# EAGLE library part STM32F401CEU6 (library IC_MCU)
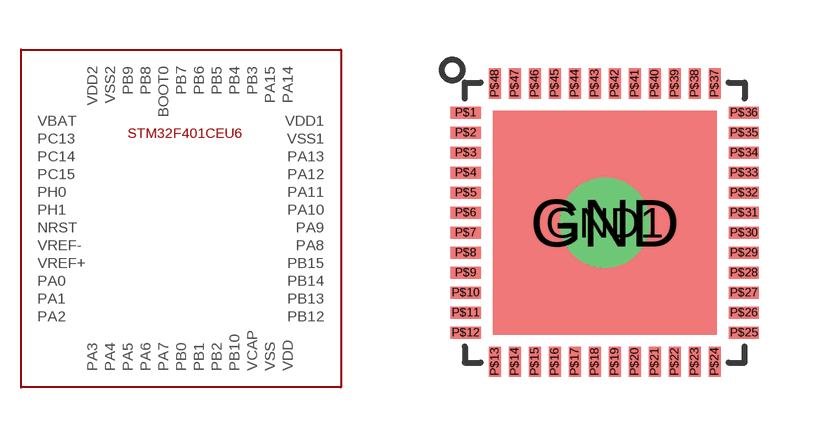
[diagram p4: symbol with the pads of UFQFPN48; footprint UFQFPN48]

Designator prefix -

## STM32F401CEU6  [UFQFPN48]
GND  VSS
GND1  VSS
P$1  VBAT
P$2  PC13
P$3  PC14
P$4  PC15
P$5  PH0
P$6  PH1
P$7  NRST
P$8  VREF-
P$9  VREF+
P$10  PA0
P$11  PA1
P$12  PA2
P$13  PA3
P$14  PA4
P$15  PA5
P$16  PA6
P$17  PA7
P$18  PB0
P$19  PB1
P$20  PB2
P$21  PB10
P$22  VCAP
P$23  VSS
P$24  VDD
P$25  PB12
P$26  PB13
P$27  PB14
P$28  PB15
P$29  PA8
P$30  PA9
P$31  PA10
P$32  PA11
P$33  PA12
P$34  PA13
P$35  VSS1
P$36  VDD1
P$37  PA14
P$38  PA15
P$39  PB3
P$40  PB4
P$41  PB5
P$42  PB6
P$43  PB7
P$44  BOOT0
P$45  PB8
P$46  PB9
P$47  VSS2
P$48  VDD2

## Footprint UFQFPN48 (pad centres in mm)
smd 5.6 x 5.6: GND 0,0
drill 1.5: GND1 0,0
smd 0.76 x 0.3: P$1 -3.48,2.75; P$2 -3.48,2.25; P$3 -3.48,1.75; P$4 -3.48,1.25; P$5 -3.48,0.75; P$6 -3.48,0.25; P$7 -3.48,-0.25; P$8 -3.48,-0.75; P$9 -3.48,-1.25; P$10 -3.48,-1.75; P$11 -3.48,-2.25; P$12 -3.48,-2.75; P$25 3.48,-2.75; P$26 3.48,-2.25; P$27 3.48,-1.75; P$28 3.48,-1.25; P$29 3.48,-0.75; P$30 3.48,-0.25; P$31 3.48,0.25; P$32 3.48,0.75; P$33 3.48,1.25; P$34 3.48,1.75; P$35 3.48,2.25; P$36 3.48,2.75
smd 0.3 x 0.76: P$13 -2.75,-3.48; P$14 -2.25,-3.48; P$15 -1.75,-3.48; P$16 -1.25,-3.48; P$17 -0.75,-3.48; P$18 -0.25,-3.48; P$19 0.25,-3.48; P$20 0.75,-3.48; P$21 1.25,-3.48; P$22 1.75,-3.48; P$23 2.25,-3.48; P$24 2.75,-3.48; P$37 2.75,3.48; P$38 2.25,3.48; P$39 1.75,3.48; P$40 1.25,3.48; P$41 0.75,3.48; P$42 0.25,3.48; P$43 -0.25,3.48; P$44 -0.75,3.48; P$45 -1.25,3.48; P$46 -1.75,3.48; P$47 -2.25,3.48; P$48 -2.75,3.48